# Altium schematic symbol library ps5xxx.SchLib: 1 symbol
Pins are listed as number, name and electrical type; pins without a type are passive.

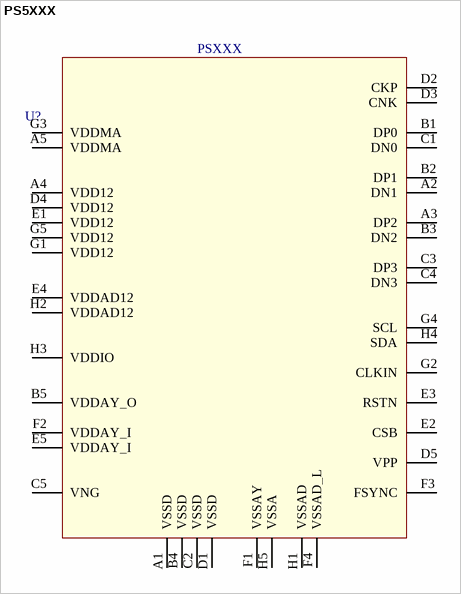
[diagram p0: symbol PS5XXX]

## PS5XXX
designator U?  MPN: PSXXX
footprint PS5XXX (Footprint not found)
pins: A1 VSSD, A2 DN1, A3 DP2, A4 VDD12, A5 VDDMA, B1 DP0, B2 DP1, B3 DN2, B4 VSSD, B5 VDDAY_O, C1 DN0, C2 VSSD, C3 DP3, C4 DN3, C5 VNG, D1 VSSD, D2 CKP, D3 CNK, D4 VDD12, D5 VPP, E1 VDD12, E2 CSB, E3 RSTN, E4 VDDAD12, E5 VDDAY_I, F1 VSSAY, F2 VDDAY_I, F3 FSYNC, F4 VSSAD_L, G1 VDD12, G2 CLKIN, G3 VDDMA, G4 SCL, G5 VDD12, H1 VSSAD, H2 VDDAD12, H3 VDDIO, H4 SDA, H5 VSSA